# Altium integrated library nrf7002_qfaa.IntLib: 16 symbols
Pins are listed as number, name and electrical type; pins without a type are passive.

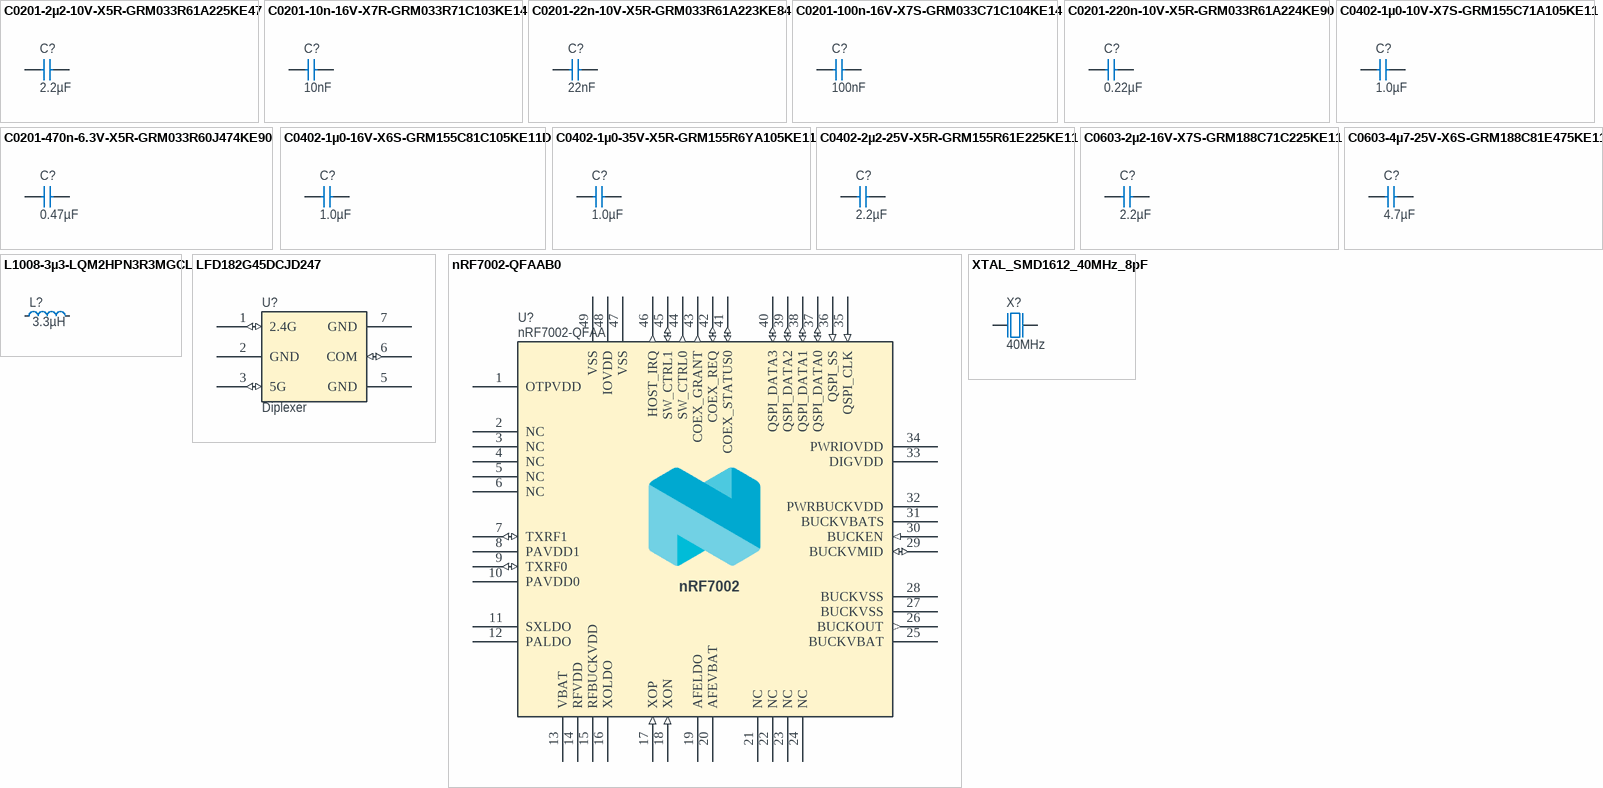
[diagram p0: symbols C0201-2µ2-10V-X5R-GRM033R61A225KE47 to XTAL_SMD1612_40MHz_8pF]

## C0201-2µ2-10V-X5R-GRM033R61A225KE47
designator C?, comment 2.2µF
Capacitor, Ceramic, X5R,±10%, 10V; Part Number: C0201-2µ2-10V-X5R-GRM033R61A225KE47; Pad Count: 2; Value: 2.2µF; Footprint Doc: 0201; Component Class: Capacitors
footprint CAPC0603X03L_C
pins: 1, 2

## C0201-10n-16V-X7R-GRM033R71C103KE14
designator C?, comment 10nF
Capacitor, Ceramic, X7R,±10%, 16V; Part Number: C0201-10n-16V-X7R-GRM033R71C103KE14; Pad Count: 2; Value: 10nF; Footprint Doc: 0201; Component Class: Capacitors
footprint CAPC0603X03L_C
pins: 1, 2

## C0201-22n-10V-X5R-GRM033R61A223KE84
designator C?, comment 22nF
Capacitor, Ceramic, X5R,±10%, 10V; Part Number: C0201-22n-10V-X5R-GRM033R61A223KE84; Pad Count: 2; Value: 22nF; Footprint Doc: 0201; Component Class: Capacitors
footprint CAPC0603X03L_C
pins: 1, 2

## C0201-100n-16V-X7S-GRM033C71C104KE14
designator C?, comment 100nF
Capacitor, Ceramic, X7S,±10%, 16V; Part Number: C0201-100n-16V-X7S-GRM033C71C104KE14; Pad Count: 2; Value: 100nF; Footprint Doc: 0201; Component Class: Capacitors
footprint CAPC0603X03L_C
pins: 1, 2

## C0201-220n-10V-X5R-GRM033R61A224KE90
designator C?, comment 0.22µF
Capacitor, Ceramic, X5R, ±10%, 10V; Part Number: C0201-220n-10V-X5R-GRM033R61A224KE90; Pad Count: 2; Value: 0.22µF; Footprint Doc: 0201; Component Class: Capacitors
footprint CAPC0603X03L_C
pins: 1, 2

## C0201-470n-6.3V-X5R-GRM033R60J474KE90
designator C?, comment 0.47µF
Capacitor, Ceramic, X5R,±10%, 6.3V; Part Number: C0201-470n-6.3V-X5R-GRM033R60J474KE90; Pad Count: 2; Value: 0.47µF; Footprint Doc: 0201; Component Class: Capacitors
footprint CAPC0603X03L_C
pins: 1, 2

## C0402-1µ0-10V-X7S-GRM155C71A105KE11
designator C?, comment 1.0µF
Capacitor, Ceramic, X7S,±10%, 10V; Part Number: C0402-1µ0-10V-X7S-GRM155C71A105KE11; Pad Count: 2; Value: 1.0µF; Footprint Doc: 0402; Component Class: Capacitors
footprint CAPC1005X04L
pins: 1, 2

## C0402-1µ0-16V-X6S-GRM155C81C105KE11D
designator C?, comment 1.0µF
Capacitor, Ceramic, X6S,±10%, 16V; Part Number: C0402-1µ0-16V-X6S-GRM155C81C105KE11D; Pad Count: 2; Value: 1.0µF; Component Class: Capacitors; Footprint Doc: 0402
footprint CAPC1005X04L
pins: 1, 2

## C0402-1µ0-35V-X5R-GRM155R6YA105KE11
designator C?, comment 1.0µF
Capacitor, Ceramic, X5R,±10%, 35V; Part Number: C0402-1µ0-35V-X5R-GRM155R6YA105KE11; Pad Count: 2; Value: 1.0µF; Footprint Doc: 0402; Component Class: Capacitors
footprint CAPC1005X04L
pins: 1, 2

## C0402-2µ2-25V-X5R-GRM155R61E225KE11
designator C?, comment 2.2µF
Capacitor, Ceramic, X5R,±10%, 25V; Part Number: C0402-2µ2-25V-X5R-GRM155R61E225KE11; Pad Count: 2; Value: 2.2µF; Footprint Doc: 0402; Component Class: Capacitors
footprint CAPC1005X04L
pins: 1, 2

## C0603-2µ2-16V-X7S-GRM188C71C225KE11
designator C?, comment 2.2µF
Capacitor, Ceramic, X7S,±10%, 16V; Part Number: C0603-2µ2-16V-X7S-GRM188C71C225KE11; Pad Count: 2; Value: 2.2µF; Footprint Doc: 0603; Component Class: Capacitors
footprint CAPC1608X06L
pins: 1, 2

## C0603-4µ7-25V-X6S-GRM188C81E475KE11
designator C?, comment 4.7µF
Capacitor, Ceramic, X6S,±10%, 25V; Part Number: C0603-4µ7-25V-X6S-GRM188C81E475KE11; Pad Count: 2; Value: 4.7µF; Footprint Doc: 0603; Component Class: Capacitors
footprint CAPC1608X06L
pins: 1, 2

## L1008-3µ3-LQM2HPN3R3MGCL
designator L?, comment 3.3µH
Inductor, 1A, ±20%, 200mOhm; Part Number: L1008-3µ3-LQM2HPN3R3MGCL; Pad Count: 2; Value: 3.3µH; Footprint Doc: 1008; Component Class: Inductors
footprint INDC2520X10N
pins: 1, 2

## LFD182G45DCJD247
designator U?, comment Diplexer
Signal Conditioning 2.4GHz and 5GHz Diplexer; Part Number: LFD182G45DCJD247; Manufacturer: Murata; Pad Count: 6; Value: LFD182G45DCJD247; Component Class: Filters; Manufacturer Part Number: LFD182G45DCJD247; Footprint Doc: CAF
footprint CAF-50P160X80-6N
pins: 1 2.4G (io), 2 GND (power), 3 5G (io), 5 GND (power), 6 COM (io), 7 GND (power)

## nRF7002-QFAAB0
designator U?, comment nRF7002-QFAA
Wi-fi Dual Band Companion chip; Part Number: nRF7002-QFAAB0; Manufacturer: Nordic Semiconductor; Pad Count: 49; Manufacturer Part Number: nRF7002-QFAAB0; Value: nRF7002-QFAA; Footprint Doc: QFN-48; Component Class: Nordic_Devices
footprint QFN40P600X600X60-48N
pins: 1 OTPVDD (power) "OTP write mode supply,  (2.25-2.75V)", 2 NC, 3 NC, 4 NC, 5 NC, 6 NC, 7 TXRF1 (io) "RF INOUT ,", 8 PAVDD1 (power) "Supply ,  (3.3V)", 9 TXRF0 (io) "RF INOUT ,", 10 PAVDD0 (power) "Supply ,  (3.3V)", 11 SXLDO (power) "Supply ,  (1.2V)", 12 PALDO (power) "Supply ,  (3.3V)", 13 VBAT (power) "Supply ,  (2.5-4.5V)", 14 RFVDD (power) "Supply ,  (1.8V)", 15 RFBUCKVDD (power) "Supply ,  (1.5V)", 16 XOLDO (power) "Supply ,  (1.2V)", 17 XOP (in) "40MHz crystal ,", 18 XON (in) "40MHz crystal ,", 19 AFELDO (power) "Supply ,  (1.8V)", 20 AFEVBAT (power) "Supply ,  (2.5-4.5V)", 21 NC, 22 NC, 23 NC, 24 NC, 25 BUCKVBAT (power) "Supply ,  (2.5-4.5V)", 26 BUCKOUT (out) "DCDC output", 27 BUCKVSS (power) "DCDC GND", 28 BUCKVSS (power) "DCDC GND", 29 BUCKVMID (io) "Voltage reference decoupling pin ,", 30 BUCKEN (in) "PWR IP enable pin ,", 31 BUCKVBATS (power) "Supply ,  (2.5-4.5V)", 32 PWRBUCKVDD (power) "Supply ,  (1.5V)", 33 DIGVDD (power) "Supply ,  (1.1V)", 34 PWRIOVDD (power) "internal IO supply, may be used for OTP read,  (1.8-3.3 V)", 35 QSPI_CLK (in) "QSPI Clock", 36 QSPI_SS (in) "QSPI  Slave select", 37 QSPI_DATA0 (io) "QSPI data 0/MOSI", 38 QSPI_DATA1 (io) "QSPI data 1/MISO", 39 QSPI_DATA2 (io) "QSPI data 2/NC", 40 QSPI_DATA3 (io) "QSPI data 3/NC", 41 COEX_STATUS0 (io) "Coex interface, DIGMON1 (O) / GPIO1 (O)", 42 COEX_REQ (io) "Coex interface, DIGMON0 (O) / GPIO0 (O)", 43 COEX_GRANT (out) "Coex interface, GPIO2 (O)", 44 SW_CTRL0 (out) "external switch control , GPIO3 (O)", 45 SW_CTRL1 (io) "external switch control , GPIO4 (O) / BT_COEX_STATUS1 (I)", 46 HOST_IRQ (out) "Host processor interrupt request , GPIO5 (O)", 47 VSS "Connect to GND", 48 IOVDD (power) "IO supply ,  (1.8-3.3 V)", 49 VSS (power) "Center Pad"
text: nRF7002

## XTAL_SMD1612_40MHz_8pF
designator X?, comment 40MHz
XTAL SMD 1612, 40MHz, Cl=8pF, Total Tol: ±10ppm; Part Number: XTAL_SMD1612_40MHz_8pF; Pad Count: 4; Value: 40MHz; Footprint Doc: XTAL_1612; Component Class: Oscillators
footprint BT-XTAL_1612
pins: 1 inp, 2 GND hidden to GND, 3 out, 4 GND hidden to GND